# Altium footprint library S6B-PH-K-S(LF)(SN) JST 6PIN.PcbLib: 1 footprints
Each footprint in its own frame and in the unit in brackets; x right, y up, seen from the top. Pads: shape width x height; smd on the part's side, far side on the other; paste and mask are expansions set on the pad; w line width, h text height; cw(c..) or ccw(c..) is an arc to the next point about the centre after c.
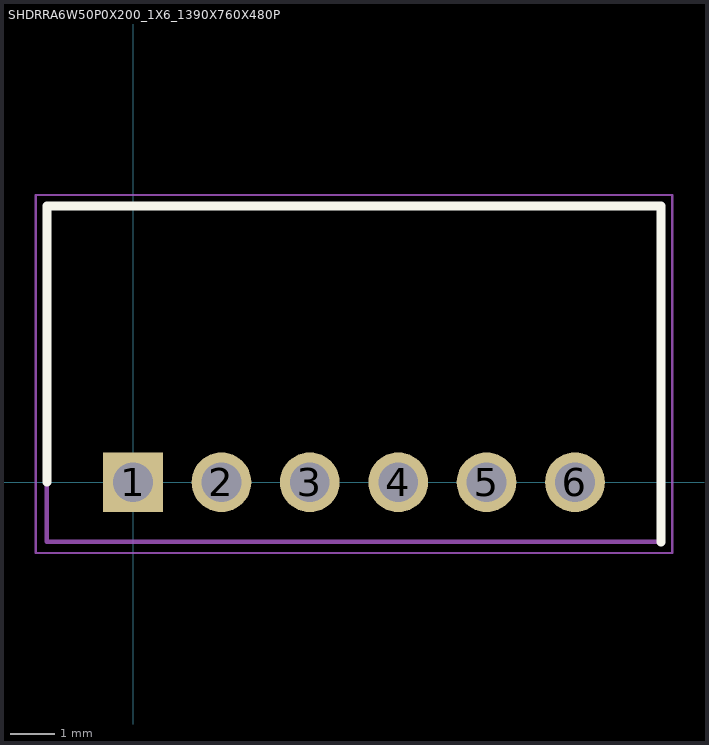
[diagram p0: the footprint, top view; thin cyan lines are the x and y axes]

## SHDRRA6W50P0X200_1X6_1390X760X480P [mm]
pads (6):
  rect 1.35x1.35 hole 0.9: 1(0,0)
  round 1.35 hole 0.9: 2(2,0) 3(4,0) 4(6,0) 5(8,0) 6(10,0)
Top Overlay:
  lines w0.2: -1.95,0 -1.95,6.25 11.95,6.25 11.95,-1.35
Mechanical 13:
  lines w0.1: -1.95,-1.35 -1.95,6.25 11.95,6.25 11.95,-1.35 -1.95,-1.35
Mechanical 15:
  lines w0.05: -2.2,-1.6 12.2,-1.6 12.2,6.5 -2.2,6.5 -2.2,-1.6
3D body "S6B-PH-K-S_LF__SN_.stp": height 4.8, standoff -3.4, extent -1.95,-1.35 11.95,6.25